# Altium schematic symbol library MAX31341CETB+T.SchLib: 1 symbol
Pins are listed as number, name and electrical type; pins without a type are passive.

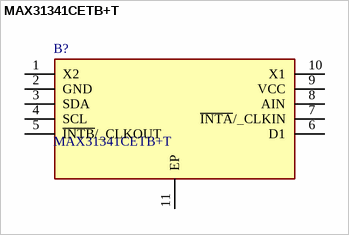
[diagram p0: symbol MAX31341CETB+T]

## MAX31341CETB+T
designator B?
Real Time Clock Serial I2C 64Bytes 10-Pin TDFN T/R; Manufacturer_Name: Analog Devices; Geometry.Height: 0.8mm; Mouser Part Number: 700-MAX31341CETB+T; Mouser Price/Stock: https://www.mouser.co.uk/ProductDetail/Maxim-Integrated/MAX31341CETB%2bT?qs=sPbYRqrBIVlk%252BGgVjH6I%2Fg%3D%3D; Manufacturer_Part_Number: MAX31341CETB+T; Datasheet Link: https://www.mouser.de/datasheet/2/256/MAX31341B-MAX31341C-1855887.pdf
footprint SON50P300X300X80-11N
pins: 1 X2, 2 GND, 3 SDA, 4 SCL, 5 ~{INTB}/_CLKOUT, 6 D1, 7 ~{INTA}/_CLKIN, 8 AIN, 9 VCC, 10 X1, 11 EP